# Altium schematic symbol library spacemonochrome-WR_TBL.SchLib: 1696 symbols (part 5 of 28)
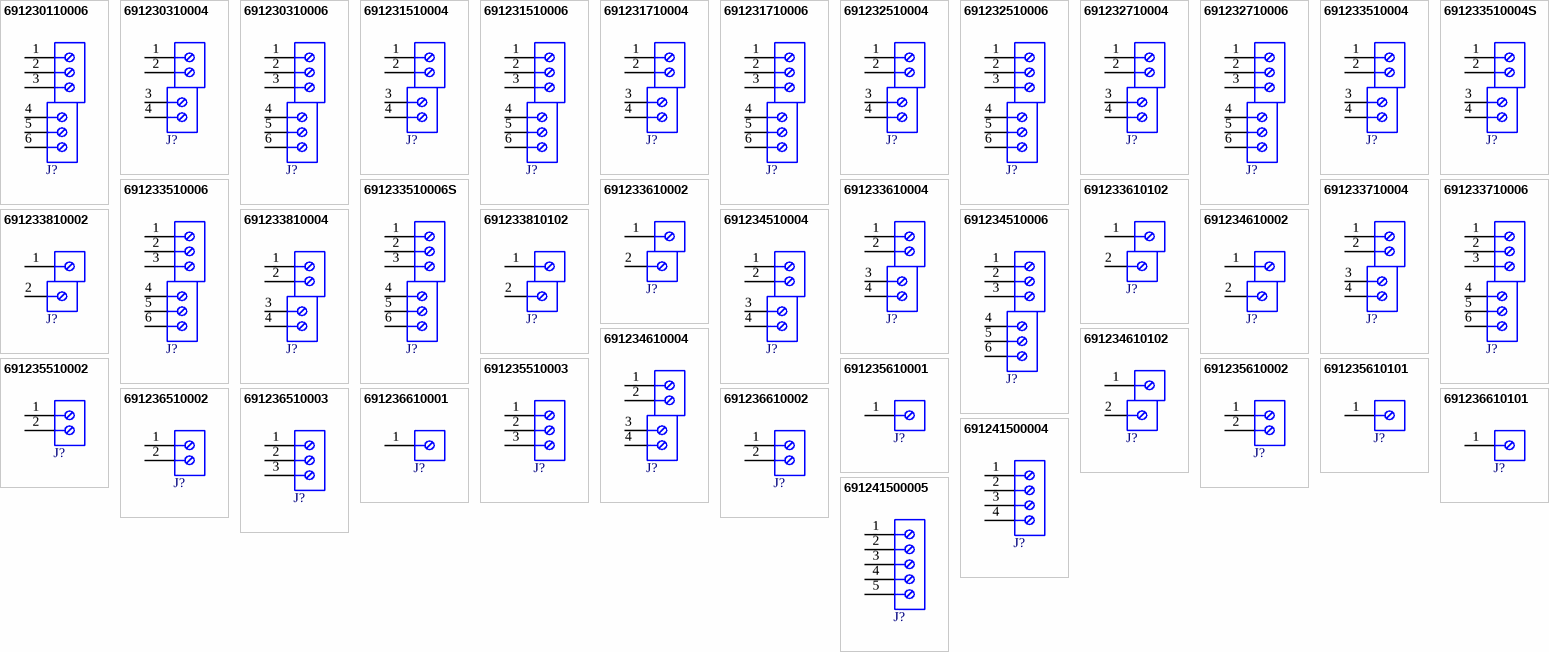
[diagram p46: symbols 691230110006 to 691241500005]

## 691233510006
designator J?  (value not drawn)
WR-TBL Series 2335 Double Level Horizontal Entry Modular, THT, pitch 5.08mm, 6p; Manufacturer: Wurth Elektronik; Modularity: Yes; Rated Current: 20A; Working Voltage: 300V; ComponentLink1Description: Website Link; ComponentLink1URL: https://www.we-online.com/redexpert/article/691233510006?ad; ComponentLink2Description: Datasheet Link; ComponentLink2URL: https://www.we-online.com/redexpert/spec/691233510006?ad; Manufacturer Part Number: 691233510006; Category: Terminal Blocks; Match Code: WR-TBL; Mount: Through Hole; Operating Temperature Max: 105°C; Operating Temperature Min: -40°C; Packaging: Box; Application: Rising Cage Clamp; Number of Pins: 6; Number of Rows: 2; Orientation: Double Level Horizontal; Pitch: 5.08mm
footprint 691233510006
pins: 1, 2, 3, 4, 5, 6

## 691233510006S
designator J?  (value not drawn)
WR-TBL Series 2335S Double Level Horizontal Entry Modular, THT, pitch 5.08mm, 6p; Manufacturer: Wurth Elektronik; Modularity: Yes; Rated Current: 20A; Working Voltage: 300V; ComponentLink1Description: Website Link; ComponentLink1URL: https://www.we-online.com/redexpert/article/691233510006S?ad; ComponentLink2Description: Datasheet Link; ComponentLink2URL: https://www.we-online.com/redexpert/spec/691233510006S?ad; Manufacturer Part Number: 691233510006S; Category: Terminal Blocks; Match Code: WR-TBL; Mount: Through Hole; Operating Temperature Max: 120°C; Operating Temperature Min: -30°C; Packaging: Box; Application: Rising Cage Clamp; Number of Pins: 6; Number of Rows: 2; Orientation: Double Level Horizontal; Pitch: 5.08mm
footprint 691233510006S
pins: 1, 2, 3, 4, 5, 6

## 691233610002
designator J?  (value not drawn)
WR-TBL Series 2336 Double Level Horizontal Entry, THT, pitch 10.16mm, 2p; Manufacturer: Wurth Elektronik; Modularity: Yes; Rated Current: 20A; Working Voltage: 300V; ComponentLink1Description: Website Link; ComponentLink1URL: https://www.we-online.com/redexpert/article/691233610002?ad; ComponentLink2Description: Datasheet Link; ComponentLink2URL: https://www.we-online.com/redexpert/spec/691233610002?ad; Manufacturer Part Number: 691233610002; Category: Terminal Blocks; Match Code: WR-TBL; Mount: Through Hole; Operating Temperature Max: 120°C; Operating Temperature Min: -30°C; Packaging: Box; Application: Rising Cage Clamp; Number of Pins: 2; Number of Rows: 2; Orientation: Double Level Horizontal; Pitch: 10.16mm
footprint 691233610002
pins: 1, 2

## 691233610004
designator J?  (value not drawn)
WR-TBL Series 2336 Double Level Horizontal Entry, THT, pitch 10.16mm, 4p; Manufacturer: Wurth Elektronik; Modularity: Yes; Rated Current: 20A; Working Voltage: 300V; ComponentLink1Description: Website Link; ComponentLink1URL: https://www.we-online.com/redexpert/article/691233610004?ad; ComponentLink2Description: Datasheet Link; ComponentLink2URL: https://www.we-online.com/redexpert/spec/691233610004?ad; Manufacturer Part Number: 691233610004; Category: Terminal Blocks; Match Code: WR-TBL; Mount: Through Hole; Operating Temperature Max: 120°C; Operating Temperature Min: -30°C; Packaging: Box; Application: Rising Cage Clamp; Number of Pins: 4; Number of Rows: 2; Orientation: Double Level Horizontal; Pitch: 10.16mm
footprint 691233610004
pins: 1, 2, 3, 4

## 691233610102
designator J?  (value not drawn)
WR-TBL Series 2336 Double Level Horizontal Entry, THT, pitch 10.16mm, 2p; Manufacturer: Wurth Elektronik; Modularity: Yes; Rated Current: 20A; Working Voltage: 300V; ComponentLink1Description: Website Link; ComponentLink1URL: https://www.we-online.com/redexpert/article/691233610102?ad; ComponentLink2Description: Datasheet Link; ComponentLink2URL: https://www.we-online.com/redexpert/spec/691233610102?ad; Manufacturer Part Number: 691233610102; Category: Terminal Blocks; Match Code: WR-TBL; Mount: Through Hole; Operating Temperature Max: 120°C; Operating Temperature Min: -30°C; Packaging: Box; Application: Rising Cage Clamp; Number of Pins: 2; Number of Rows: 2; Orientation: Double Level Horizontal; Pitch: 10.16mm
footprint 691233610102
pins: 1, 2

## 691233710004
designator J?  (value not drawn)
WR-TBL Series 2337 Double Level Horizontal Entry Modular, THT, pitch 5mm, 4p; Manufacturer: Wurth Elektronik; Modularity: Yes; Rated Current: 20A; Working Voltage: 300V; ComponentLink1Description: Website Link; ComponentLink1URL: https://www.we-online.com/redexpert/article/691233710004?ad; ComponentLink2Description: Datasheet Link; ComponentLink2URL: https://www.we-online.com/redexpert/spec/691233710004?ad; Manufacturer Part Number: 691233710004; Category: Terminal Blocks; Match Code: WR-TBL; Mount: Through Hole; Operating Temperature Max: 105°C; Operating Temperature Min: -40°C; Packaging: Box; Application: Rising Cage Clamp; Number of Pins: 4; Number of Rows: 2; Orientation: Double Level Horizontal; Pitch: 5mm
footprint 691233710004
pins: 1, 2, 3, 4

## 691233710006
designator J?  (value not drawn)
WR-TBL Series 2337 Double Level Horizontal Entry Modular, THT, pitch 5mm, 6p; Manufacturer: Wurth Elektronik; Modularity: Yes; Rated Current: 20A; Working Voltage: 300V; ComponentLink1Description: Website Link; ComponentLink1URL: https://www.we-online.com/redexpert/article/691233710006?ad; ComponentLink2Description: Datasheet Link; ComponentLink2URL: https://www.we-online.com/redexpert/spec/691233710006?ad; Manufacturer Part Number: 691233710006; Category: Terminal Blocks; Match Code: WR-TBL; Mount: Through Hole; Operating Temperature Max: 105°C; Operating Temperature Min: -40°C; Packaging: Box; Application: Rising Cage Clamp; Number of Pins: 6; Number of Rows: 2; Orientation: Double Level Horizontal; Pitch: 5mm
footprint 691233710006
pins: 1, 2, 3, 4, 5, 6

## 691233810002
designator J?  (value not drawn)
WR-TBL Series 2338 Double Level Horizontal Cable Entry, THT, pitch 10mm, 2p; Manufacturer: Wurth Elektronik; Modularity: Yes; Rated Current: 16A; Working Voltage: 300V; ComponentLink1Description: Website Link; ComponentLink1URL: https://www.we-online.com/redexpert/article/691233810002?ad; ComponentLink2Description: Datasheet Link; ComponentLink2URL: https://www.we-online.com/redexpert/spec/691233810002?ad; Manufacturer Part Number: 691233810002; Category: Terminal Blocks; Match Code: WR-TBL; Mount: Through Hole; Operating Temperature Max: 120°C; Operating Temperature Min: -30°C; Packaging: Box; Application: Rising Cage Clamp; Number of Pins: 2; Number of Rows: 2; Orientation: Double Level Horizontal; Pitch: 10mm
footprint 691233810002
pins: 1, 2

## 691233810004
designator J?  (value not drawn)
WR-TBL Series 2338 Double Level Horizontal Cable Entry, THT, pitch 10mm, 4p; Manufacturer: Wurth Elektronik; Modularity: Yes; Rated Current: 16A; Working Voltage: 300V; ComponentLink1Description: Website Link; ComponentLink1URL: https://www.we-online.com/redexpert/article/691233810004?ad; ComponentLink2Description: Datasheet Link; ComponentLink2URL: https://www.we-online.com/redexpert/spec/691233810004?ad; Manufacturer Part Number: 691233810004; Category: Terminal Blocks; Match Code: WR-TBL; Mount: Through Hole; Operating Temperature Max: 120°C; Operating Temperature Min: -30°C; Packaging: Box; Application: Rising Cage Clamp; Number of Pins: 4; Number of Rows: 2; Orientation: Double Level Horizontal; Pitch: 10mm
footprint 691233810004
pins: 1, 2, 3, 4

## 691233810102
designator J?  (value not drawn)
WR-TBL Series 2338 Double Level Horizontal Cable Entry, THT, pitch 10mm, 2p; Manufacturer: Wurth Elektronik; Modularity: Yes; Rated Current: 16A; Working Voltage: 300V; ComponentLink1Description: Website Link; ComponentLink1URL: https://www.we-online.com/redexpert/article/691233810102?ad; ComponentLink2Description: Datasheet Link; ComponentLink2URL: https://www.we-online.com/redexpert/spec/691233810102?ad; Manufacturer Part Number: 691233810102; Category: Terminal Blocks; Match Code: WR-TBL; Mount: Through Hole; Operating Temperature Max: 120°C; Operating Temperature Min: -30°C; Packaging: Box; Application: Rising Cage Clamp; Number of Pins: 2; Number of Rows: 2; Orientation: Double Level Horizontal; Pitch: 10mm
footprint 691233810102
pins: 1, 2

## 691234510004
designator J?  (value not drawn)
WR-TBL Series 2345 Double Level Horizontal Entry, THT, pitch 5.08mm, 4p; Manufacturer: Wurth Elektronik; Modularity: Yes; Rated Current: 20A; Working Voltage: 300V; ComponentLink1Description: Website Link; ComponentLink1URL: https://www.we-online.com/redexpert/article/691234510004?ad; ComponentLink2Description: Datasheet Link; ComponentLink2URL: https://www.we-online.com/redexpert/spec/691234510004?ad; Manufacturer Part Number: 691234510004; Category: Terminal Blocks; Match Code: WR-TBL; Mount: Through Hole; Operating Temperature Max: 120°C; Operating Temperature Min: -30°C; Packaging: Box; Application: Rising Cage Clamp; Number of Pins: 4; Number of Rows: 2; Orientation: Double Level Horizontal; Pitch: 5.08mm
footprint 691234510004
pins: 1, 2, 3, 4

## 691234510006
designator J?  (value not drawn)
WR-TBL Series 2345 Double Level Horizontal Entry, THT, pitch 5.08mm, 6p; Manufacturer: Wurth Elektronik; Modularity: Yes; Rated Current: 20A; Working Voltage: 300V; ComponentLink1Description: Website Link; ComponentLink1URL: https://www.we-online.com/redexpert/article/691234510006?ad; ComponentLink2Description: Datasheet Link; ComponentLink2URL: https://www.we-online.com/redexpert/spec/691234510006?ad; Manufacturer Part Number: 691234510006; Category: Terminal Blocks; Match Code: WR-TBL; Mount: Through Hole; Operating Temperature Max: 120°C; Operating Temperature Min: -30°C; Packaging: Box; Application: Rising Cage Clamp; Number of Pins: 6; Number of Rows: 2; Orientation: Double Level Horizontal; Pitch: 5.08mm
footprint 691234510006
pins: 1, 2, 3, 4, 5, 6

## 691234610002
designator J?  (value not drawn)
WR-TBL Series 2346 Double Level Horizontal Entry, THT, pitch 10.16mm, 2p; Manufacturer: Wurth Elektronik; Modularity: Yes; Rated Current: 20A; Working Voltage: 300V; ComponentLink1Description: Website Link; ComponentLink1URL: https://www.we-online.com/redexpert/article/691234610002?ad; ComponentLink2Description: Datasheet Link; ComponentLink2URL: https://www.we-online.com/redexpert/spec/691234610002?ad; Manufacturer Part Number: 691234610002; Category: Terminal Blocks; Match Code: WR-TBL; Mount: Through Hole; Operating Temperature Max: 120°C; Operating Temperature Min: -30°C; Packaging: Box; Application: Rising Cage Clamp; Number of Pins: 2; Number of Rows: 2; Orientation: Double Level Horizontal; Pitch: 10.16mm
footprint 691234610002
pins: 1, 2

## 691234610004
designator J?  (value not drawn)
WR-TBL Series 2346 Double Level Horizontal Entry, THT, pitch 10.16mm, 4p; Manufacturer: Wurth Elektronik; Modularity: Yes; Rated Current: 20A; Working Voltage: 300V; ComponentLink1Description: Website Link; ComponentLink1URL: https://www.we-online.com/redexpert/article/691234610004?ad; ComponentLink2Description: Datasheet Link; ComponentLink2URL: https://www.we-online.com/redexpert/spec/691234610004?ad; Manufacturer Part Number: 691234610004; Category: Terminal Blocks; Match Code: WR-TBL; Mount: Through Hole; Operating Temperature Max: 120°C; Operating Temperature Min: -30°C; Packaging: Box; Application: Rising Cage Clamp; Number of Pins: 4; Number of Rows: 2; Orientation: Double Level Horizontal; Pitch: 10.16mm
footprint 691234610004
pins: 1, 2, 3, 4

## 691234610102
designator J?  (value not drawn)
WR-TBL Series 2346 Double Level Horizontal Entry, THT, pitch 10.16mm, 2p; Manufacturer: Wurth Elektronik; Modularity: Yes; Rated Current: 20A; Working Voltage: 300V; ComponentLink1Description: Website Link; ComponentLink1URL: https://www.we-online.com/redexpert/article/691234610102?ad; ComponentLink2Description: Datasheet Link; ComponentLink2URL: https://www.we-online.com/redexpert/spec/691234610102?ad; Manufacturer Part Number: 691234610102; Category: Terminal Blocks; Match Code: WR-TBL; Mount: Through Hole; Operating Temperature Max: 120°C; Operating Temperature Min: -30°C; Packaging: Box; Application: Rising Cage Clamp; Number of Pins: 2; Number of Rows: 2; Orientation: Double Level Horizontal; Pitch: 10.16mm
footprint 691234610102
pins: 1, 2

## 691235510002
designator J?  (value not drawn)
WR-TBL Series 2355 Horizontal Entry, THT, pitch 5.08mm, 2p; Manufacturer: Wurth Elektronik; Modularity: Yes; Rated Current: 20A; Working Voltage: 300V; ComponentLink1Description: Website Link; ComponentLink1URL: https://www.we-online.com/redexpert/article/691235510002?ad; ComponentLink2Description: Datasheet Link; ComponentLink2URL: https://www.we-online.com/redexpert/spec/691235510002?ad; Manufacturer Part Number: 691235510002; Category: Terminal Blocks; Match Code: WR-TBL; Mount: Through Hole; Operating Temperature Max: 120°C; Operating Temperature Min: -30°C; Packaging: Box; Application: Rising Cage Clamp; Number of Pins: 2; Number of Rows: 1; Orientation: Horizontal; Pitch: 5.08mm
footprint 691235510002
pins: 1, 2

## 691235510003
designator J?  (value not drawn)
WR-TBL Series 2355 Horizontal Entry, THT, pitch 5.08mm, 3p; Manufacturer: Wurth Elektronik; Modularity: Yes; Rated Current: 20A; Working Voltage: 300V; ComponentLink1Description: Website Link; ComponentLink1URL: https://www.we-online.com/redexpert/article/691235510003?ad; ComponentLink2Description: Datasheet Link; ComponentLink2URL: https://www.we-online.com/redexpert/spec/691235510003?ad; Manufacturer Part Number: 691235510003; Category: Terminal Blocks; Match Code: WR-TBL; Mount: Through Hole; Operating Temperature Max: 120°C; Operating Temperature Min: -30°C; Packaging: Box; Application: Rising Cage Clamp; Number of Pins: 3; Number of Rows: 1; Orientation: Horizontal; Pitch: 5.08mm
footprint 691235510003
pins: 1, 2, 3

## 691235610001
designator J?  (value not drawn)
WR-TBL Series 2356 Horizontal Entry, THT, pitch 10.16mm, 1p; Manufacturer: Wurth Elektronik; Modularity: Yes; Rated Current: 20A; Working Voltage: 300V; ComponentLink1Description: Website Link; ComponentLink1URL: https://www.we-online.com/redexpert/article/691235610001?ad; ComponentLink2Description: Datasheet Link; ComponentLink2URL: https://www.we-online.com/redexpert/spec/691235610001?ad; Manufacturer Part Number: 691235610001; Category: Terminal Blocks; Match Code: WR-TBL; Mount: Through Hole; Operating Temperature Max: 120°C; Operating Temperature Min: -30°C; Packaging: Box; Application: Rising Cage Clamp; Number of Pins: 1; Number of Rows: 1; Orientation: Horizontal; Pitch: 10.16mm
footprint 691235610001
pins: 1

## 691235610002
designator J?  (value not drawn)
WR-TBL Series 2356 Horizontal Entry, THT, pitch 10.16mm, 2p; Manufacturer: Wurth Elektronik; Modularity: Yes; Rated Current: 20A; Working Voltage: 300V; ComponentLink1Description: Website Link; ComponentLink1URL: https://www.we-online.com/redexpert/article/691235610002?ad; ComponentLink2Description: Datasheet Link; ComponentLink2URL: https://www.we-online.com/redexpert/spec/691235610002?ad; Manufacturer Part Number: 691235610002; Category: Terminal Blocks; Match Code: WR-TBL; Mount: Through Hole; Operating Temperature Max: 120°C; Operating Temperature Min: -30°C; Packaging: Box; Application: Rising Cage Clamp; Number of Pins: 2; Number of Rows: 1; Orientation: Horizontal; Pitch: 10.16mm
footprint 691235610002
pins: 1, 2

## 691235610101
designator J?  (value not drawn)
WR-TBL Series 2356 Horizontal Entry, THT, pitch 10.16mm, 1p; Manufacturer: Wurth Elektronik; Modularity: Yes; Rated Current: 20A; Working Voltage: 300V; ComponentLink1Description: Website Link; ComponentLink1URL: https://www.we-online.com/redexpert/article/691235610101?ad; ComponentLink2Description: Datasheet Link; ComponentLink2URL: https://www.we-online.com/redexpert/spec/691235610101?ad; Manufacturer Part Number: 691235610101; Category: Terminal Blocks; Match Code: WR-TBL; Mount: Through Hole; Operating Temperature Max: 120°C; Operating Temperature Min: -30°C; Packaging: Box; Application: Rising Cage Clamp; Number of Pins: 1; Number of Rows: 1; Orientation: Horizontal; Pitch: 10.16mm
footprint 691235610101
pins: 1

## 691236510002
designator J?  (value not drawn)
WR-TBL Series 2365 Horizontal Entry, THT, pitch 5.08mm, 2p; Manufacturer: Wurth Elektronik; Modularity: Yes; Rated Current: 20A; Working Voltage: 300V; ComponentLink1Description: Website Link; ComponentLink1URL: https://www.we-online.com/redexpert/article/691236510002?ad; ComponentLink2Description: Datasheet Link; ComponentLink2URL: https://www.we-online.com/redexpert/spec/691236510002?ad; Manufacturer Part Number: 691236510002; Category: Terminal Blocks; Match Code: WR-TBL; Mount: Through Hole; Operating Temperature Max: 120°C; Operating Temperature Min: -30°C; Packaging: Box; Application: Rising Cage Clamp; Number of Pins: 2; Number of Rows: 1; Orientation: Horizontal; Pitch: 5.08mm
footprint 691236510002
pins: 1, 2

## 691236510003
designator J?  (value not drawn)
WR-TBL Series 2365 Horizontal Entry, THT, pitch 5.08mm, 3p; Manufacturer: Wurth Elektronik; Modularity: Yes; Rated Current: 20A; Working Voltage: 300V; ComponentLink1Description: Website Link; ComponentLink1URL: https://www.we-online.com/redexpert/article/691236510003?ad; ComponentLink2Description: Datasheet Link; ComponentLink2URL: https://www.we-online.com/redexpert/spec/691236510003?ad; Manufacturer Part Number: 691236510003; Category: Terminal Blocks; Match Code: WR-TBL; Mount: Through Hole; Operating Temperature Max: 120°C; Operating Temperature Min: -30°C; Packaging: Box; Application: Rising Cage Clamp; Number of Pins: 3; Number of Rows: 1; Orientation: Horizontal; Pitch: 5.08mm
footprint 691236510003
pins: 1, 2, 3

## 691236610001
designator J?  (value not drawn)
WR-TBL Series 2366 Horizontal Entry, THT, pitch 10.16mm, 1p; Manufacturer: Wurth Elektronik; Modularity: Yes; Rated Current: 20A; Working Voltage: 300V; ComponentLink1Description: Website Link; ComponentLink1URL: https://www.we-online.com/redexpert/article/691236610001?ad; ComponentLink2Description: Datasheet Link; ComponentLink2URL: https://www.we-online.com/redexpert/spec/691236610001?ad; Manufacturer Part Number: 691236610001; Category: Terminal Blocks; Match Code: WR-TBL; Mount: Through Hole; Operating Temperature Max: 120°C; Operating Temperature Min: -30°C; Packaging: Box; Application: Rising Cage Clamp; Number of Pins: 1; Number of Rows: 1; Orientation: Horizontal; Pitch: 10.16mm
footprint 691236610001
pins: 1

## 691236610002
designator J?  (value not drawn)
WR-TBL Series 2366 Horizontal Entry, THT, pitch 10.16mm, 2p; Manufacturer: Wurth Elektronik; Modularity: Yes; Rated Current: 20A; Working Voltage: 300V; ComponentLink1Description: Website Link; ComponentLink1URL: https://www.we-online.com/redexpert/article/691236610002?ad; ComponentLink2Description: Datasheet Link; ComponentLink2URL: https://www.we-online.com/redexpert/spec/691236610002?ad; Manufacturer Part Number: 691236610002; Category: Terminal Blocks; Match Code: WR-TBL; Mount: Through Hole; Operating Temperature Max: 120°C; Operating Temperature Min: -30°C; Packaging: Box; Application: Rising Cage Clamp; Number of Pins: 2; Number of Rows: 1; Orientation: Horizontal; Pitch: 10.16mm
footprint 691236610002
pins: 1, 2

## 691236610101
designator J?  (value not drawn)
WR-TBL Series 2366 Horizontal Entry, THT, pitch 10.16mm, 1p; Manufacturer: Wurth Elektronik; Modularity: Yes; Rated Current: 20A; Working Voltage: 300V; ComponentLink1Description: Website Link; ComponentLink1URL: https://www.we-online.com/redexpert/article/691236610101?ad; ComponentLink2Description: Datasheet Link; ComponentLink2URL: https://www.we-online.com/redexpert/spec/691236610101?ad; Manufacturer Part Number: 691236610101; Category: Terminal Blocks; Match Code: WR-TBL; Mount: Through Hole; Operating Temperature Max: 120°C; Operating Temperature Min: -30°C; Packaging: Box; Application: Rising Cage Clamp; Number of Pins: 1; Number of Rows: 1; Orientation: Horizontal; Pitch: 10.16mm
footprint 691236610101
pins: 1

## 691241500004
designator J?  (value not drawn)
WR-TBL Series 2415 Vertical Entry, THT, pitch 5.08mm, 4p; Manufacturer: Wurth Elektronik; Modularity: No; Rated Current: 14A; Working Voltage: 300V; ComponentLink1Description: Website Link; ComponentLink1URL: https://www.we-online.com/redexpert/article/691241500004?ad; ComponentLink2Description: Datasheet Link; ComponentLink2URL: https://www.we-online.com/redexpert/spec/691241500004?ad; Manufacturer Part Number: 691241500004; Category: Terminal Blocks; Match Code: WR-TBL; Mount: Through Hole; Operating Temperature Max: 120°C; Operating Temperature Min: -30°C; Packaging: Box; Application: Rising Cage Clamp; Number of Pins: 4; Number of Rows: 1; Orientation: Vertical; Pitch: 5.08mm
footprint 691241500004
pins: 1, 2, 3, 4

## 691241500005
designator J?  (value not drawn)
WR-TBL Series 2415 Vertical Entry, THT, pitch 5.08mm, 5p; Manufacturer: Wurth Elektronik; Modularity: No; Rated Current: 14A; Working Voltage: 300V; ComponentLink1Description: Website Link; ComponentLink1URL: https://www.we-online.com/redexpert/article/691241500005?ad; ComponentLink2Description: Datasheet Link; ComponentLink2URL: https://www.we-online.com/redexpert/spec/691241500005?ad; Manufacturer Part Number: 691241500005; Category: Terminal Blocks; Match Code: WR-TBL; Mount: Through Hole; Operating Temperature Max: 120°C; Operating Temperature Min: -30°C; Packaging: Box; Application: Rising Cage Clamp; Number of Pins: 5; Number of Rows: 1; Orientation: Vertical; Pitch: 5.08mm
footprint 691241500005
pins: 1, 2, 3, 4, 5

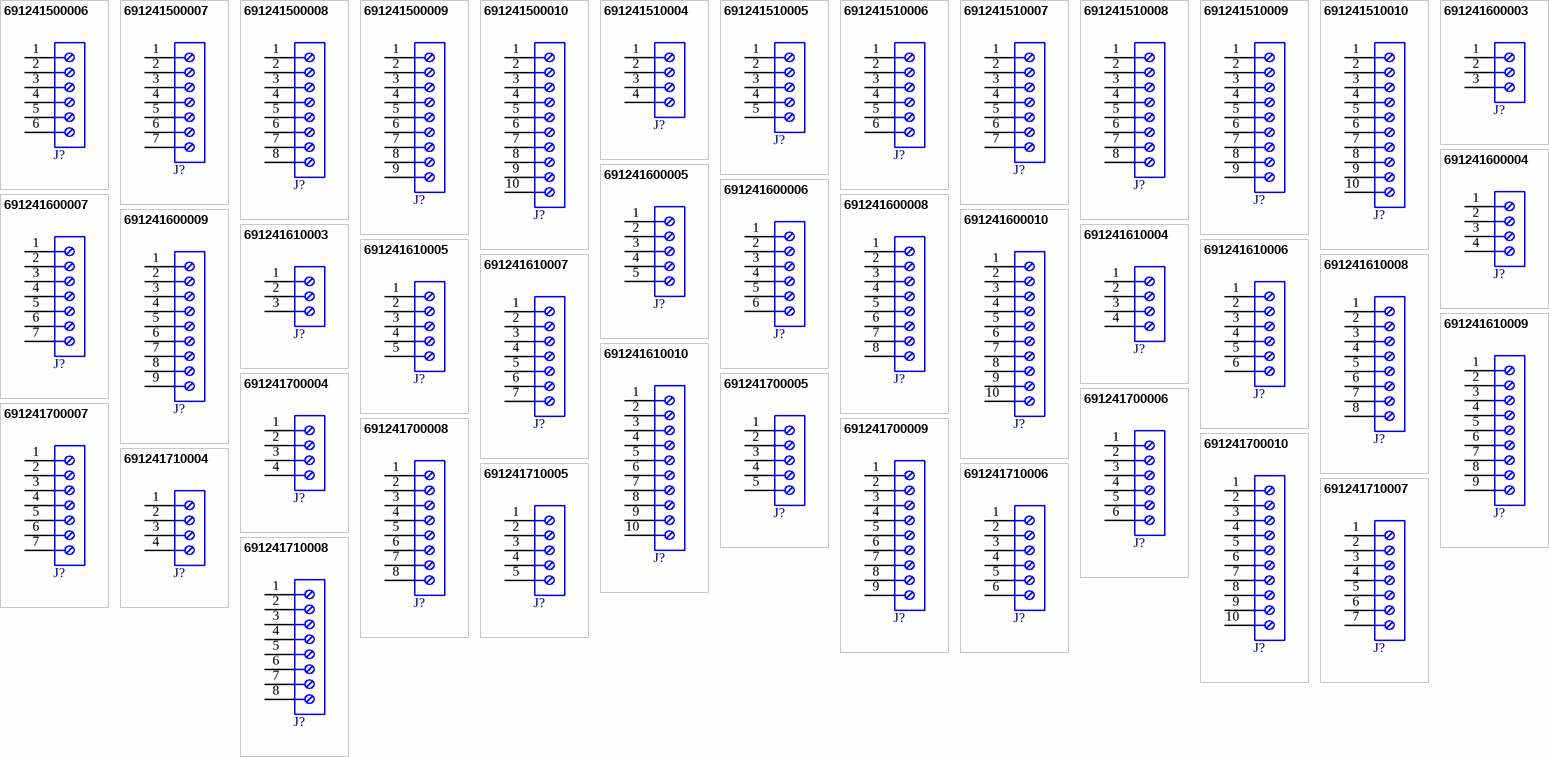
[diagram p7: symbols 691241500006 to 691241710008]

## 691241500006
designator J?  (value not drawn)
WR-TBL Series 2415 Vertical Entry, THT, pitch 5.08mm, 6p; Manufacturer: Wurth Elektronik; Modularity: No; Rated Current: 14A; Working Voltage: 300V; ComponentLink1Description: Website Link; ComponentLink1URL: https://www.we-online.com/redexpert/article/691241500006?ad; ComponentLink2Description: Datasheet Link; ComponentLink2URL: https://www.we-online.com/redexpert/spec/691241500006?ad; Manufacturer Part Number: 691241500006; Category: Terminal Blocks; Match Code: WR-TBL; Mount: Through Hole; Operating Temperature Max: 120°C; Operating Temperature Min: -30°C; Packaging: Box; Application: Rising Cage Clamp; Number of Pins: 6; Number of Rows: 1; Orientation: Vertical; Pitch: 5.08mm
footprint 691241500006
pins: 1, 2, 3, 4, 5, 6

## 691241500007
designator J?  (value not drawn)
WR-TBL Series 2415 Vertical Entry, THT, pitch 5.08mm, 7p; Manufacturer: Wurth Elektronik; Modularity: No; Rated Current: 14A; Working Voltage: 300V; ComponentLink1Description: Website Link; ComponentLink1URL: https://www.we-online.com/redexpert/article/691241500007?ad; ComponentLink2Description: Datasheet Link; ComponentLink2URL: https://www.we-online.com/redexpert/spec/691241500007?ad; Manufacturer Part Number: 691241500007; Category: Terminal Blocks; Match Code: WR-TBL; Mount: Through Hole; Operating Temperature Max: 120°C; Operating Temperature Min: -30°C; Packaging: Box; Application: Rising Cage Clamp; Number of Pins: 7; Number of Rows: 1; Orientation: Vertical; Pitch: 5.08mm
footprint 691241500007
pins: 1, 2, 3, 4, 5, 6, 7

## 691241500008
designator J?  (value not drawn)
WR-TBL Series 2415 Vertical Entry, THT, pitch 5.08mm, 8p; Manufacturer: Wurth Elektronik; Modularity: No; Rated Current: 14A; Working Voltage: 300V; ComponentLink1Description: Website Link; ComponentLink1URL: https://www.we-online.com/redexpert/article/691241500008?ad; ComponentLink2Description: Datasheet Link; ComponentLink2URL: https://www.we-online.com/redexpert/spec/691241500008?ad; Manufacturer Part Number: 691241500008; Category: Terminal Blocks; Match Code: WR-TBL; Mount: Through Hole; Operating Temperature Max: 120°C; Operating Temperature Min: -30°C; Packaging: Box; Application: Rising Cage Clamp; Number of Pins: 8; Number of Rows: 1; Orientation: Vertical; Pitch: 5.08mm
footprint 691241500008
pins: 1, 2, 3, 4, 5, 6, 7, 8

## 691241500009
designator J?  (value not drawn)
WR-TBL Series 2415 Vertical Entry, THT, pitch 5.08mm, 9p; Manufacturer: Wurth Elektronik; Modularity: No; Rated Current: 14A; Working Voltage: 300V; ComponentLink1Description: Website Link; ComponentLink1URL: https://www.we-online.com/redexpert/article/691241500009?ad; ComponentLink2Description: Datasheet Link; ComponentLink2URL: https://www.we-online.com/redexpert/spec/691241500009?ad; Manufacturer Part Number: 691241500009; Category: Terminal Blocks; Match Code: WR-TBL; Mount: Through Hole; Operating Temperature Max: 120°C; Operating Temperature Min: -30°C; Packaging: Box; Application: Rising Cage Clamp; Number of Pins: 9; Number of Rows: 1; Orientation: Vertical; Pitch: 5.08mm
footprint 691241500009
pins: 1, 2, 3, 4, 5, 6, 7, 8, 9

## 691241500010
designator J?  (value not drawn)
WR-TBL Series 2415 Vertical Entry, THT, pitch 5.08mm, 10p; Manufacturer: Wurth Elektronik; Modularity: No; Rated Current: 14A; Working Voltage: 300V; ComponentLink1Description: Website Link; ComponentLink1URL: https://www.we-online.com/redexpert/article/691241500010?ad; ComponentLink2Description: Datasheet Link; ComponentLink2URL: https://www.we-online.com/redexpert/spec/691241500010?ad; Manufacturer Part Number: 691241500010; Category: Terminal Blocks; Match Code: WR-TBL; Mount: Through Hole; Operating Temperature Max: 120°C; Operating Temperature Min: -30°C; Packaging: Box; Application: Rising Cage Clamp; Number of Pins: 10; Number of Rows: 1; Orientation: Vertical; Pitch: 5.08mm
footprint 691241500010
pins: 1, 2, 3, 4, 5, 6, 7, 8, 9, 10

## 691241510004
designator J?  (value not drawn)
WR-TBL Series 2415 Horizontal Entry Modular, THT, pitch 5.08mm, 4p; Manufacturer: Wurth Elektronik; Modularity: No; Rated Current: 14A; Working Voltage: 300V; ComponentLink1Description: Website Link; ComponentLink1URL: https://www.we-online.com/redexpert/article/691241510004?ad; ComponentLink2Description: Datasheet Link; ComponentLink2URL: https://www.we-online.com/redexpert/spec/691241510004?ad; Manufacturer Part Number: 691241510004; Category: Terminal Blocks; Match Code: WR-TBL; Mount: Through Hole; Operating Temperature Max: 120°C; Operating Temperature Min: -30°C; Packaging: Box; Application: Rising Cage Clamp; Number of Pins: 4; Number of Rows: 1; Orientation: Horizontal; Pitch: 5.08mm
footprint 691241510004
pins: 1, 2, 3, 4

## 691241510005
designator J?  (value not drawn)
WR-TBL Series 2415 Horizontal Entry Modular, THT, pitch 5.08mm, 5p; Manufacturer: Wurth Elektronik; Modularity: No; Rated Current: 14A; Working Voltage: 300V; ComponentLink1Description: Website Link; ComponentLink1URL: https://www.we-online.com/redexpert/article/691241510005?ad; ComponentLink2Description: Datasheet Link; ComponentLink2URL: https://www.we-online.com/redexpert/spec/691241510005?ad; Manufacturer Part Number: 691241510005; Category: Terminal Blocks; Match Code: WR-TBL; Mount: Through Hole; Operating Temperature Max: 120°C; Operating Temperature Min: -30°C; Packaging: Box; Application: Rising Cage Clamp; Number of Pins: 5; Number of Rows: 1; Orientation: Horizontal; Pitch: 5.08mm
footprint 691241510005
pins: 1, 2, 3, 4, 5

## 691241510006
designator J?  (value not drawn)
WR-TBL Series 2415 Horizontal Entry Modular, THT, pitch 5.08mm, 6p; Manufacturer: Wurth Elektronik; Modularity: No; Rated Current: 14A; Working Voltage: 300V; ComponentLink1Description: Website Link; ComponentLink1URL: https://www.we-online.com/redexpert/article/691241510006?ad; ComponentLink2Description: Datasheet Link; ComponentLink2URL: https://www.we-online.com/redexpert/spec/691241510006?ad; Manufacturer Part Number: 691241510006; Category: Terminal Blocks; Match Code: WR-TBL; Mount: Through Hole; Operating Temperature Max: 120°C; Operating Temperature Min: -30°C; Packaging: Box; Application: Rising Cage Clamp; Number of Pins: 6; Number of Rows: 1; Orientation: Horizontal; Pitch: 5.08mm
footprint 691241510006
pins: 1, 2, 3, 4, 5, 6

## 691241510007
designator J?  (value not drawn)
WR-TBL Series 2415 Horizontal Entry Modular, THT, pitch 5.08mm, 7p; Manufacturer: Wurth Elektronik; Modularity: No; Rated Current: 14A; Working Voltage: 300V; ComponentLink1Description: Website Link; ComponentLink1URL: https://www.we-online.com/redexpert/article/691241510007?ad; ComponentLink2Description: Datasheet Link; ComponentLink2URL: https://www.we-online.com/redexpert/spec/691241510007?ad; Manufacturer Part Number: 691241510007; Category: Terminal Blocks; Match Code: WR-TBL; Mount: Through Hole; Operating Temperature Max: 120°C; Operating Temperature Min: -30°C; Packaging: Box; Application: Rising Cage Clamp; Number of Pins: 7; Number of Rows: 1; Orientation: Horizontal; Pitch: 5.08mm
footprint 691241510007
pins: 1, 2, 3, 4, 5, 6, 7

## 691241510008
designator J?  (value not drawn)
WR-TBL Series 2415 Horizontal Entry Modular, THT, pitch 5.08mm, 8p; Manufacturer: Wurth Elektronik; Modularity: No; Rated Current: 14A; Working Voltage: 300V; ComponentLink1Description: Website Link; ComponentLink1URL: https://www.we-online.com/redexpert/article/691241510008?ad; ComponentLink2Description: Datasheet Link; ComponentLink2URL: https://www.we-online.com/redexpert/spec/691241510008?ad; Manufacturer Part Number: 691241510008; Category: Terminal Blocks; Match Code: WR-TBL; Mount: Through Hole; Operating Temperature Max: 120°C; Operating Temperature Min: -30°C; Packaging: Box; Application: Rising Cage Clamp; Number of Pins: 8; Number of Rows: 1; Orientation: Horizontal; Pitch: 5.08mm
footprint 691241510008
pins: 1, 2, 3, 4, 5, 6, 7, 8

## 691241510009
designator J?  (value not drawn)
WR-TBL Series 2415 Horizontal Entry Modular, THT, pitch 5.08mm, 9p; Manufacturer: Wurth Elektronik; Modularity: No; Rated Current: 14A; Working Voltage: 300V; ComponentLink1Description: Website Link; ComponentLink1URL: https://www.we-online.com/redexpert/article/691241510009?ad; ComponentLink2Description: Datasheet Link; ComponentLink2URL: https://www.we-online.com/redexpert/spec/691241510009?ad; Manufacturer Part Number: 691241510009; Category: Terminal Blocks; Match Code: WR-TBL; Mount: Through Hole; Operating Temperature Max: 120°C; Operating Temperature Min: -30°C; Packaging: Box; Application: Rising Cage Clamp; Number of Pins: 9; Number of Rows: 1; Orientation: Horizontal; Pitch: 5.08mm
footprint 691241510009
pins: 1, 2, 3, 4, 5, 6, 7, 8, 9

## 691241510010
designator J?  (value not drawn)
WR-TBL Series 2415 Horizontal Entry Modular, THT, pitch 5.08mm, 10p; Manufacturer: Wurth Elektronik; Modularity: No; Rated Current: 14A; Working Voltage: 300V; ComponentLink1Description: Website Link; ComponentLink1URL: https://www.we-online.com/redexpert/article/691241510010?ad; ComponentLink2Description: Datasheet Link; ComponentLink2URL: https://www.we-online.com/redexpert/spec/691241510010?ad; Manufacturer Part Number: 691241510010; Category: Terminal Blocks; Match Code: WR-TBL; Mount: Through Hole; Operating Temperature Max: 120°C; Operating Temperature Min: -30°C; Packaging: Box; Application: Rising Cage Clamp; Number of Pins: 10; Number of Rows: 1; Orientation: Horizontal; Pitch: 5.08mm
footprint 691241510010
pins: 1, 2, 3, 4, 5, 6, 7, 8, 9, 10

## 691241600003
designator J?  (value not drawn)
WR-TBL Series 2416 Vertical Entry, THT, pitch 10.16mm, 3p; Manufacturer: Wurth Elektronik; Modularity: No; Rated Current: 14A; Working Voltage: 300V; ComponentLink1Description: Website Link; ComponentLink1URL: https://www.we-online.com/redexpert/article/691241600003?ad; ComponentLink2Description: Datasheet Link; ComponentLink2URL: https://www.we-online.com/redexpert/spec/691241600003?ad; Manufacturer Part Number: 691241600003; Category: Terminal Blocks; Match Code: WR-TBL; Mount: Through Hole; Operating Temperature Max: 120°C; Operating Temperature Min: -30°C; Packaging: Box; Application: Rising Cage Clamp; Number of Pins: 3; Number of Rows: 1; Orientation: Vertical; Pitch: 10.16mm
footprint 691241600003
pins: 1, 2, 3

## 691241600004
designator J?  (value not drawn)
WR-TBL Series 2416 Vertical Entry, THT, pitch 10.16mm, 4p; Manufacturer: Wurth Elektronik; Modularity: No; Rated Current: 14A; Working Voltage: 300V; ComponentLink1Description: Website Link; ComponentLink1URL: https://www.we-online.com/redexpert/article/691241600004?ad; ComponentLink2Description: Datasheet Link; ComponentLink2URL: https://www.we-online.com/redexpert/spec/691241600004?ad; Manufacturer Part Number: 691241600004; Category: Terminal Blocks; Match Code: WR-TBL; Mount: Through Hole; Operating Temperature Max: 120°C; Operating Temperature Min: -30°C; Packaging: Box; Application: Rising Cage Clamp; Number of Pins: 4; Number of Rows: 1; Orientation: Vertical; Pitch: 10.16mm
footprint 691241600004
pins: 1, 2, 3, 4

## 691241600005
designator J?  (value not drawn)
WR-TBL Series 2416 Vertical Entry, THT, pitch 10.16mm, 5p; Manufacturer: Wurth Elektronik; Modularity: No; Rated Current: 14A; Working Voltage: 300V; ComponentLink1Description: Website Link; ComponentLink1URL: https://www.we-online.com/redexpert/article/691241600005?ad; ComponentLink2Description: Datasheet Link; ComponentLink2URL: https://www.we-online.com/redexpert/spec/691241600005?ad; Manufacturer Part Number: 691241600005; Category: Terminal Blocks; Match Code: WR-TBL; Mount: Through Hole; Operating Temperature Max: 120°C; Operating Temperature Min: -30°C; Packaging: Box; Application: Rising Cage Clamp; Number of Pins: 5; Number of Rows: 1; Orientation: Vertical; Pitch: 10.16mm
footprint 691241600005
pins: 1, 2, 3, 4, 5

## 691241600006
designator J?  (value not drawn)
WR-TBL Series 2416 Vertical Entry, THT, pitch 10.16mm, 6p; Manufacturer: Wurth Elektronik; Modularity: No; Rated Current: 14A; Working Voltage: 300V; ComponentLink1Description: Website Link; ComponentLink1URL: https://www.we-online.com/redexpert/article/691241600006?ad; ComponentLink2Description: Datasheet Link; ComponentLink2URL: https://www.we-online.com/redexpert/spec/691241600006?ad; Manufacturer Part Number: 691241600006; Category: Terminal Blocks; Match Code: WR-TBL; Mount: Through Hole; Operating Temperature Max: 120°C; Operating Temperature Min: -30°C; Packaging: Box; Application: Rising Cage Clamp; Number of Pins: 6; Number of Rows: 1; Orientation: Vertical; Pitch: 10.16mm
footprint 691241600006
pins: 1, 2, 3, 4, 5, 6

## 691241600007
designator J?  (value not drawn)
WR-TBL Series 2416 Vertical Entry, THT, pitch 10.16mm, 7p; Manufacturer: Wurth Elektronik; Modularity: No; Rated Current: 14A; Working Voltage: 300V; ComponentLink1Description: Website Link; ComponentLink1URL: https://www.we-online.com/redexpert/article/691241600007?ad; ComponentLink2Description: Datasheet Link; ComponentLink2URL: https://www.we-online.com/redexpert/spec/691241600007?ad; Manufacturer Part Number: 691241600007; Category: Terminal Blocks; Match Code: WR-TBL; Mount: Through Hole; Operating Temperature Max: 120°C; Operating Temperature Min: -30°C; Packaging: Box; Application: Rising Cage Clamp; Number of Pins: 7; Number of Rows: 1; Orientation: Vertical; Pitch: 10.16mm
footprint 691241600007
pins: 1, 2, 3, 4, 5, 6, 7

## 691241600008
designator J?  (value not drawn)
WR-TBL Series 2416 Vertical Entry, THT, pitch 10.16mm, 8p; Manufacturer: Wurth Elektronik; Modularity: No; Rated Current: 14A; Working Voltage: 300V; ComponentLink1Description: Website Link; ComponentLink1URL: https://www.we-online.com/redexpert/article/691241600008?ad; ComponentLink2Description: Datasheet Link; ComponentLink2URL: https://www.we-online.com/redexpert/spec/691241600008?ad; Manufacturer Part Number: 691241600008; Category: Terminal Blocks; Match Code: WR-TBL; Mount: Through Hole; Operating Temperature Max: 120°C; Operating Temperature Min: -30°C; Packaging: Box; Application: Rising Cage Clamp; Number of Pins: 8; Number of Rows: 1; Orientation: Vertical; Pitch: 10.16mm
footprint 691241600008
pins: 1, 2, 3, 4, 5, 6, 7, 8

## 691241600009
designator J?  (value not drawn)
WR-TBL Series 2416 Vertical Entry, THT, pitch 10.16mm, 9p; Manufacturer: Wurth Elektronik; Modularity: No; Rated Current: 14A; Working Voltage: 300V; ComponentLink1Description: Website Link; ComponentLink1URL: https://www.we-online.com/redexpert/article/691241600009?ad; ComponentLink2Description: Datasheet Link; ComponentLink2URL: https://www.we-online.com/redexpert/spec/691241600009?ad; Manufacturer Part Number: 691241600009; Category: Terminal Blocks; Match Code: WR-TBL; Mount: Through Hole; Operating Temperature Max: 120°C; Operating Temperature Min: -30°C; Packaging: Box; Application: Rising Cage Clamp; Number of Pins: 9; Number of Rows: 1; Orientation: Vertical; Pitch: 10.16mm
footprint 691241600009
pins: 1, 2, 3, 4, 5, 6, 7, 8, 9

## 691241600010
designator J?  (value not drawn)
WR-TBL Series 2416 Vertical Entry, THT, pitch 10.16mm, 10p; Manufacturer: Wurth Elektronik; Modularity: No; Rated Current: 14A; Working Voltage: 300V; ComponentLink1Description: Website Link; ComponentLink1URL: https://www.we-online.com/redexpert/article/691241600010?ad; ComponentLink2Description: Datasheet Link; ComponentLink2URL: https://www.we-online.com/redexpert/spec/691241600010?ad; Manufacturer Part Number: 691241600010; Category: Terminal Blocks; Match Code: WR-TBL; Mount: Through Hole; Operating Temperature Max: 120°C; Operating Temperature Min: -30°C; Packaging: Box; Application: Rising Cage Clamp; Number of Pins: 10; Number of Rows: 1; Orientation: Vertical; Pitch: 10.16mm
footprint 691241600010
pins: 1, 2, 3, 4, 5, 6, 7, 8, 9, 10

## 691241610003
designator J?  (value not drawn)
WR-TBL Series 2416 Horizontal Entry, THT, pitch 10.16mm, 3p; Manufacturer: Wurth Elektronik; Modularity: No; Rated Current: 14A; Working Voltage: 300V; ComponentLink1Description: Website Link; ComponentLink1URL: https://www.we-online.com/redexpert/article/691241610003?ad; ComponentLink2Description: Datasheet Link; ComponentLink2URL: https://www.we-online.com/redexpert/spec/691241610003?ad; Manufacturer Part Number: 691241610003; Category: Terminal Blocks; Match Code: WR-TBL; Mount: Through Hole; Operating Temperature Max: 120°C; Operating Temperature Min: -30°C; Packaging: Box; Application: Rising Cage Clamp; Number of Pins: 3; Number of Rows: 1; Orientation: Horizontal; Pitch: 10.16mm
footprint 691241610003
pins: 1, 2, 3

## 691241610004
designator J?  (value not drawn)
WR-TBL Series 2416 Horizontal Entry, THT, pitch 10.16mm, 4p; Manufacturer: Wurth Elektronik; Modularity: No; Rated Current: 14A; Working Voltage: 300V; ComponentLink1Description: Website Link; ComponentLink1URL: https://www.we-online.com/redexpert/article/691241610004?ad; ComponentLink2Description: Datasheet Link; ComponentLink2URL: https://www.we-online.com/redexpert/spec/691241610004?ad; Manufacturer Part Number: 691241610004; Category: Terminal Blocks; Match Code: WR-TBL; Mount: Through Hole; Operating Temperature Max: 120°C; Operating Temperature Min: -30°C; Packaging: Box; Application: Rising Cage Clamp; Number of Pins: 4; Number of Rows: 1; Orientation: Horizontal; Pitch: 10.16mm
footprint 691241610004
pins: 1, 2, 3, 4

## 691241610005
designator J?  (value not drawn)
WR-TBL Series 2416 Horizontal Entry, THT, pitch 10.16mm, 5p; Manufacturer: Wurth Elektronik; Modularity: No; Rated Current: 14A; Working Voltage: 300V; ComponentLink1Description: Website Link; ComponentLink1URL: https://www.we-online.com/redexpert/article/691241610005?ad; ComponentLink2Description: Datasheet Link; ComponentLink2URL: https://www.we-online.com/redexpert/spec/691241610005?ad; Manufacturer Part Number: 691241610005; Category: Terminal Blocks; Match Code: WR-TBL; Mount: Through Hole; Operating Temperature Max: 120°C; Operating Temperature Min: -30°C; Packaging: Box; Application: Rising Cage Clamp; Number of Pins: 5; Number of Rows: 1; Orientation: Horizontal; Pitch: 10.16mm
footprint 691241610005
pins: 1, 2, 3, 4, 5

## 691241610006
designator J?  (value not drawn)
WR-TBL Series 2416 Horizontal Entry, THT, pitch 10.16mm, 6p; Manufacturer: Wurth Elektronik; Modularity: No; Rated Current: 14A; Working Voltage: 300V; ComponentLink1Description: Website Link; ComponentLink1URL: https://www.we-online.com/redexpert/article/691241610006?ad; ComponentLink2Description: Datasheet Link; ComponentLink2URL: https://www.we-online.com/redexpert/spec/691241610006?ad; Manufacturer Part Number: 691241610006; Category: Terminal Blocks; Match Code: WR-TBL; Mount: Through Hole; Operating Temperature Max: 120°C; Operating Temperature Min: -30°C; Packaging: Box; Application: Rising Cage Clamp; Number of Pins: 6; Number of Rows: 1; Orientation: Horizontal; Pitch: 10.16mm
footprint 691241610006
pins: 1, 2, 3, 4, 5, 6

## 691241610007
designator J?  (value not drawn)
WR-TBL Series 2416 Horizontal Entry, THT, pitch 10.16mm, 7p; Manufacturer: Wurth Elektronik; Modularity: No; Rated Current: 14A; Working Voltage: 300V; ComponentLink1Description: Website Link; ComponentLink1URL: https://www.we-online.com/redexpert/article/691241610007?ad; ComponentLink2Description: Datasheet Link; ComponentLink2URL: https://www.we-online.com/redexpert/spec/691241610007?ad; Manufacturer Part Number: 691241610007; Category: Terminal Blocks; Match Code: WR-TBL; Mount: Through Hole; Operating Temperature Max: 120°C; Operating Temperature Min: -30°C; Packaging: Box; Application: Rising Cage Clamp; Number of Pins: 7; Number of Rows: 1; Orientation: Horizontal; Pitch: 10.16mm
footprint 691241610007
pins: 1, 2, 3, 4, 5, 6, 7

## 691241610008
designator J?  (value not drawn)
WR-TBL Series 2416 Horizontal Entry, THT, pitch 10.16mm, 8p; Manufacturer: Wurth Elektronik; Modularity: No; Rated Current: 14A; Working Voltage: 300V; ComponentLink1Description: Website Link; ComponentLink1URL: https://www.we-online.com/redexpert/article/691241610008?ad; ComponentLink2Description: Datasheet Link; ComponentLink2URL: https://www.we-online.com/redexpert/spec/691241610008?ad; Manufacturer Part Number: 691241610008; Category: Terminal Blocks; Match Code: WR-TBL; Mount: Through Hole; Operating Temperature Max: 120°C; Operating Temperature Min: -30°C; Packaging: Box; Application: Rising Cage Clamp; Number of Pins: 8; Number of Rows: 1; Orientation: Horizontal; Pitch: 10.16mm
footprint 691241610008
pins: 1, 2, 3, 4, 5, 6, 7, 8

## 691241610009
designator J?  (value not drawn)
WR-TBL Series 2416 Horizontal Entry, THT, pitch 10.16mm, 9p; Manufacturer: Wurth Elektronik; Modularity: No; Rated Current: 14A; Working Voltage: 300V; ComponentLink1Description: Website Link; ComponentLink1URL: https://www.we-online.com/redexpert/article/691241610009?ad; ComponentLink2Description: Datasheet Link; ComponentLink2URL: https://www.we-online.com/redexpert/spec/691241610009?ad; Manufacturer Part Number: 691241610009; Category: Terminal Blocks; Match Code: WR-TBL; Mount: Through Hole; Operating Temperature Max: 120°C; Operating Temperature Min: -30°C; Packaging: Box; Application: Rising Cage Clamp; Number of Pins: 9; Number of Rows: 1; Orientation: Horizontal; Pitch: 10.16mm
footprint 691241610009
pins: 1, 2, 3, 4, 5, 6, 7, 8, 9

## 691241610010
designator J?  (value not drawn)
WR-TBL Series 2416 Horizontal Entry, THT, pitch 10.16mm, 10p; Manufacturer: Wurth Elektronik; Modularity: No; Rated Current: 14A; Working Voltage: 300V; ComponentLink1Description: Website Link; ComponentLink1URL: https://www.we-online.com/redexpert/article/691241610010?ad; ComponentLink2Description: Datasheet Link; ComponentLink2URL: https://www.we-online.com/redexpert/spec/691241610010?ad; Manufacturer Part Number: 691241610010; Category: Terminal Blocks; Match Code: WR-TBL; Mount: Through Hole; Operating Temperature Max: 120°C; Operating Temperature Min: -30°C; Packaging: Box; Application: Rising Cage Clamp; Number of Pins: 10; Number of Rows: 1; Orientation: Horizontal; Pitch: 10.16mm
footprint 691241610010
pins: 1, 2, 3, 4, 5, 6, 7, 8, 9, 10

## 691241700004
designator J?  (value not drawn)
WR-TBL Series 2417 Vertical Entry, THT, pitch 5mm, 4p; Manufacturer: Wurth Elektronik; Modularity: No; Rated Current: 14A; Working Voltage: 300V; ComponentLink1Description: Website Link; ComponentLink1URL: https://www.we-online.com/redexpert/article/691241700004?ad; ComponentLink2Description: Datasheet Link; ComponentLink2URL: https://www.we-online.com/redexpert/spec/691241700004?ad; Manufacturer Part Number: 691241700004; Category: Terminal Blocks; Match Code: WR-TBL; Mount: Through Hole; Operating Temperature Max: 120°C; Operating Temperature Min: -30°C; Packaging: Box; Application: Rising Cage Clamp; Number of Pins: 4; Number of Rows: 1; Orientation: Vertical; Pitch: 5mm
footprint 691241700004
pins: 1, 2, 3, 4

## 691241700005
designator J?  (value not drawn)
WR-TBL Series 2417 Vertical Entry, THT, pitch 5mm, 5p; Manufacturer: Wurth Elektronik; Modularity: No; Rated Current: 14A; Working Voltage: 300V; ComponentLink1Description: Website Link; ComponentLink1URL: https://www.we-online.com/redexpert/article/691241700005?ad; ComponentLink2Description: Datasheet Link; ComponentLink2URL: https://www.we-online.com/redexpert/spec/691241700005?ad; Manufacturer Part Number: 691241700005; Category: Terminal Blocks; Match Code: WR-TBL; Mount: Through Hole; Operating Temperature Max: 120°C; Operating Temperature Min: -30°C; Packaging: Box; Application: Rising Cage Clamp; Number of Pins: 5; Number of Rows: 1; Orientation: Vertical; Pitch: 5mm
footprint 691241700005
pins: 1, 2, 3, 4, 5

## 691241700006
designator J?  (value not drawn)
WR-TBL Series 2417 Vertical Entry, THT, pitch 5mm, 6p; Manufacturer: Wurth Elektronik; Modularity: No; Rated Current: 14A; Working Voltage: 300V; ComponentLink1Description: Website Link; ComponentLink1URL: https://www.we-online.com/redexpert/article/691241700006?ad; ComponentLink2Description: Datasheet Link; ComponentLink2URL: https://www.we-online.com/redexpert/spec/691241700006?ad; Manufacturer Part Number: 691241700006; Category: Terminal Blocks; Match Code: WR-TBL; Mount: Through Hole; Operating Temperature Max: 120°C; Operating Temperature Min: -30°C; Packaging: Box; Application: Rising Cage Clamp; Number of Pins: 6; Number of Rows: 1; Orientation: Vertical; Pitch: 5mm
footprint 691241700006
pins: 1, 2, 3, 4, 5, 6

## 691241700007
designator J?  (value not drawn)
WR-TBL Series 2417 Vertical Entry, THT, pitch 5mm, 7p; Manufacturer: Wurth Elektronik; Modularity: No; Rated Current: 14A; Working Voltage: 300V; ComponentLink1Description: Website Link; ComponentLink1URL: https://www.we-online.com/redexpert/article/691241700007?ad; ComponentLink2Description: Datasheet Link; ComponentLink2URL: https://www.we-online.com/redexpert/spec/691241700007?ad; Manufacturer Part Number: 691241700007; Category: Terminal Blocks; Match Code: WR-TBL; Mount: Through Hole; Operating Temperature Max: 120°C; Operating Temperature Min: -30°C; Packaging: Box; Application: Rising Cage Clamp; Number of Pins: 7; Number of Rows: 1; Orientation: Vertical; Pitch: 5mm
footprint 691241700007
pins: 1, 2, 3, 4, 5, 6, 7

## 691241700008
designator J?  (value not drawn)
WR-TBL Series 2417 Vertical Entry, THT, pitch 5mm, 8p; Manufacturer: Wurth Elektronik; Modularity: No; Rated Current: 14A; Working Voltage: 300V; ComponentLink1Description: Website Link; ComponentLink1URL: https://www.we-online.com/redexpert/article/691241700008?ad; ComponentLink2Description: Datasheet Link; ComponentLink2URL: https://www.we-online.com/redexpert/spec/691241700008?ad; Manufacturer Part Number: 691241700008; Category: Terminal Blocks; Match Code: WR-TBL; Mount: Through Hole; Operating Temperature Max: 120°C; Operating Temperature Min: -30°C; Packaging: Box; Application: Rising Cage Clamp; Number of Pins: 8; Number of Rows: 1; Orientation: Vertical; Pitch: 5mm
footprint 691241700008
pins: 1, 2, 3, 4, 5, 6, 7, 8

## 691241700009
designator J?  (value not drawn)
WR-TBL Series 2417 Vertical Entry, THT, pitch 5mm, 9p; Manufacturer: Wurth Elektronik; Modularity: No; Rated Current: 14A; Working Voltage: 300V; ComponentLink1Description: Website Link; ComponentLink1URL: https://www.we-online.com/redexpert/article/691241700009?ad; ComponentLink2Description: Datasheet Link; ComponentLink2URL: https://www.we-online.com/redexpert/spec/691241700009?ad; Manufacturer Part Number: 691241700009; Category: Terminal Blocks; Match Code: WR-TBL; Mount: Through Hole; Operating Temperature Max: 120°C; Operating Temperature Min: -30°C; Packaging: Box; Application: Rising Cage Clamp; Number of Pins: 9; Number of Rows: 1; Orientation: Vertical; Pitch: 5mm
footprint 691241700009
pins: 1, 2, 3, 4, 5, 6, 7, 8, 9

## 691241700010
designator J?  (value not drawn)
WR-TBL Series 2417 Vertical Entry, THT, pitch 5mm, 10p; Manufacturer: Wurth Elektronik; Modularity: No; Rated Current: 14A; Working Voltage: 300V; ComponentLink1Description: Website Link; ComponentLink1URL: https://www.we-online.com/redexpert/article/691241700010?ad; ComponentLink2Description: Datasheet Link; ComponentLink2URL: https://www.we-online.com/redexpert/spec/691241700010?ad; Manufacturer Part Number: 691241700010; Category: Terminal Blocks; Match Code: WR-TBL; Mount: Through Hole; Operating Temperature Max: 120°C; Operating Temperature Min: -30°C; Packaging: Box; Application: Rising Cage Clamp; Number of Pins: 10; Number of Rows: 1; Orientation: Vertical; Pitch: 5mm
footprint 691241700010
pins: 1, 2, 3, 4, 5, 6, 7, 8, 9, 10